# Altium schematic symbol library EEEFK0J331XP.Schlib: 1 symbol
Pins are listed as number, name and electrical type; pins without a type are passive.

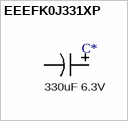
[diagram p0: symbol EEEFK0J331XP]

## EEEFK0J331XP
designator C*  value 330uF 6.3V  (hidden comment: *)
330uF ±20% 6.3V SMD,6.3x7.7mm Aluminum Electrolytic Capacitors - SMD RoHS; ComponentLink1Description: LCSC - PANASONIC EEEFK0J331XP; ComponentLink1URL: https://lcsc.com/product-detail/Aluminum-Electrolytic-Capacitors-SMD_PANASONIC-EEEFK0J331XP_C128454.html
footprint SMD,6.3x7.7mm
pins: 1, 2